# Altium footprint library Pulser Driver4,2.PcbLib: 46 footprints (part 1 of 3)
Each footprint in its own frame and in the unit in brackets; x right, y up, seen from the top. Pads: shape width x height; smd on the part's side, far side on the other; paste and mask are expansions set on the pad; w line width, h text height; cw(c..) or ccw(c..) is an arc to the next point about the centre after c.
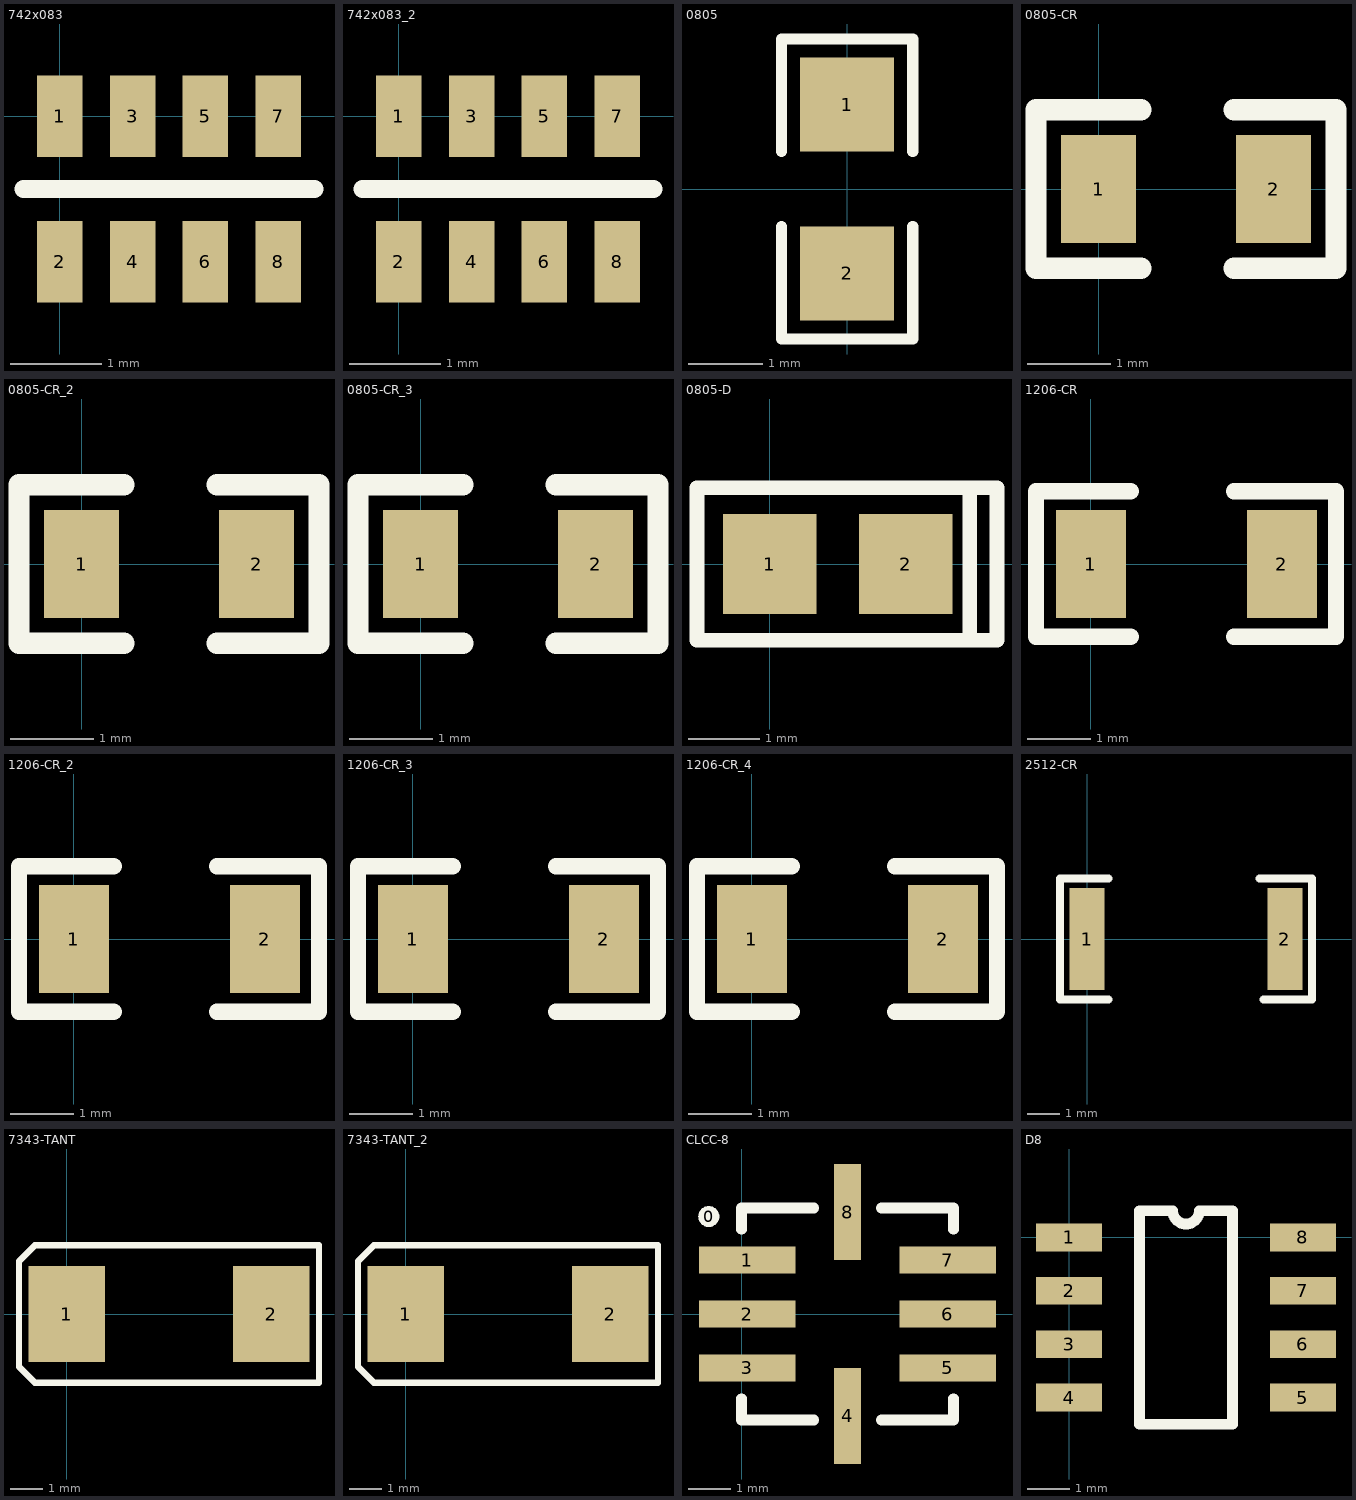
[diagram p0: the footprints below, top view; thin cyan lines are the x and y axes]

## 742x083 [mm] "742x083 4-Isolated Resistor Array"
height 0.55
pads (8):
  rect 0.5x0.9 smd: 1(0,0) 2(0,-1.6) 3(0.8,0) 4(0.8,-1.6) 5(1.6,0) 6(1.6,-1.6) 7(2.4,0) 8(2.4,-1.6)
Top Overlay:
  lines w0.203: -0.4,-0.8 2.8,-0.8

## 742x083_2 [mm]
pads (8):
  rect 0.5x0.9 smd: 1(0,0) 2(0,-1.6) 3(0.8,0) 4(0.8,-1.6) 5(1.6,0) 6(1.6,-1.6) 7(2.4,0) 8(2.4,-1.6)
Top Overlay:
  lines w0.203: -0.4,-0.8 2.8,-0.8

## 0805 [mil]
height 49.21
pads (2):
  rect 50x50 smd: 1(0,45) 2(0,-45)
Top Overlay:
  lines w6: -35,-20 -35,-80 35,-80 35,-20 ; -35,20 -35,80 35,80 35,20

## 0805-CR [mm]
pads (2):
  rect 0.9x1.3 smd: 1(0,0) 2(2.1,0)
Top Overlay:
  lines w0.254: 0.508,-0.95 -0.75,-0.95 -0.75,0.95 0.508,0.95 ; 1.625,-0.95 2.85,-0.95 2.85,0.95 1.625,0.95

## 0805-CR_2 [mm]
pads (2):
  rect 0.9x1.3 smd: 1(0,0) 2(2.1,0)
Top Overlay:
  lines w0.254: 0.508,-0.95 -0.75,-0.95 -0.75,0.95 0.508,0.95 ; 1.625,-0.95 2.85,-0.95 2.85,0.95 1.625,0.95

## 0805-CR_3 [mm]
pads (2):
  rect 0.9x1.3 smd: 1(0,0) 2(2.1,0)
Top Overlay:
  lines w0.254: 0.508,-0.95 -0.75,-0.95 -0.75,0.95 0.508,0.95 ; 1.625,-0.95 2.85,-0.95 2.85,0.95 1.625,0.95

## 0805-D [mm]
pads (2):
  rect 1.3x1.4 smd: 1(0,0) 2(1.9,0)
Top Overlay:
  lines w0.2: -1.016,-1.067 3.175,-1.067 ; -1.016,1.067 3.175,1.067
  lines w0.203: -1.016,-1.067 -1.016,1.067 ; 2.794,-1.067 2.794,1.067 ; 3.175,-1.067 3.175,1.067

## 1206-CR [mm]
pads (2):
  rect 1.1x1.7 smd: 1(0,0) 2(3,0)
Top Overlay:
  lines w0.254: 0.625,-1.143 -0.862,-1.143 -0.862,1.143 0.625,1.143 ; 2.25,-1.143 3.85,-1.143 3.85,1.143 2.25,1.143

## 1206-CR_2 [mm]
pads (2):
  rect 1.1x1.7 smd: 1(0,0) 2(3,0)
Top Overlay:
  lines w0.254: 0.625,-1.143 -0.862,-1.143 -0.862,1.143 0.625,1.143 ; 2.25,-1.143 3.85,-1.143 3.85,1.143 2.25,1.143

## 1206-CR_3 [mm]
pads (2):
  rect 1.1x1.7 smd: 1(0,0) 2(3,0)
Top Overlay:
  lines w0.254: 0.625,-1.143 -0.862,-1.143 -0.862,1.143 0.625,1.143 ; 2.25,-1.143 3.85,-1.143 3.85,1.143 2.25,1.143

## 1206-CR_4 [mm]
pads (2):
  rect 1.1x1.7 smd: 1(0,0) 2(3,0)
Top Overlay:
  lines w0.254: 0.625,-1.143 -0.862,-1.143 -0.862,1.143 0.625,1.143 ; 2.25,-1.143 3.85,-1.143 3.85,1.143 2.25,1.143

## 2512-CR [mm]
pads (2):
  rect 1.1x3.2 smd: 1(0,0) 2(6.2,0)
Top Overlay:
  lines w0.254: 0.675,-1.9 -0.85,-1.9 -0.85,1.9 0.675,1.9 ; 5.4,1.9 7.05,1.9 7.05,-1.9 5.525,-1.9

## 7343-TANT [mm]
pads (2):
  rect 2.4x3 smd: 1(0,0) 2(6.4,0)
Top Overlay:
  lines w0.203: -1.5,-1.65 -1.5,-1.346 -1.5,1.321 -1.5,1.65 -1,2.15 7.9,2.15 7.9,-2.15 -1,-2.15 -1.5,-1.65

## 7343-TANT_2 [mm]
pads (2):
  rect 2.4x3 smd: 1(0,0) 2(6.4,0)
Top Overlay:
  lines w0.203: -1.5,-1.65 -1.5,-1.346 -1.5,1.321 -1.5,1.65 -1,2.15 7.9,2.15 7.9,-2.15 -1,-2.15 -1.5,-1.65

## CLCC-8 [mm] "8-Lead Ceramic Leadless Chip Carrier"
height 0.056
pads (9):
  round 0.5 on Top Overlay: 0(-0.775,2.3)
  rect 2.27x0.64 smd: 1(0.135,1.27) 2(0.135,0) 3(0.135,-1.27) 5(4.865,-1.27) 6(4.865,0) 7(4.865,1.27)
  rect 0.64x2.27 smd: 4(2.5,-2.405) 8(2.5,2.405)
Top Overlay:
  lines w0.254: 0,-2 0,-2.5 1.7,-2.5 ; 0,2 0,2.5 1.7,2.5 ; 3.3,-2.5 5,-2.5 5,-2 ; 3.3,2.5 5,2.5 5,2

## D8 [mil]
pads (8):
  rect 62x26 smd: 1(0,0) 2(0,-50) 3(0,-100) 4(0,-150) 5(219,-150) 6(219,-100) 7(219,-50) 8(219,0)
Top Overlay:
  lines w10: 66,-175 66,25 97,25 ccw(c109.5,25) 122,25 153,25 153,-175 66,-175